# EAGLE library part RFM69LITE (library SWP)
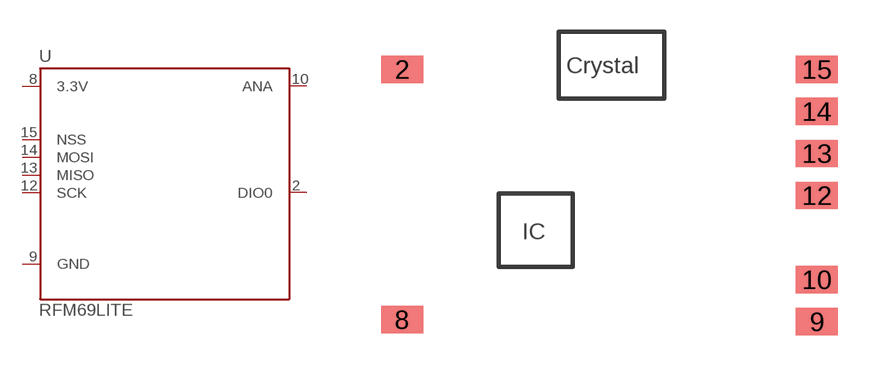
[diagram p3: symbol with the pads of RFM69SMDLITE; footprint RFM69SMDLITE]

Designator prefix -

## RFM69LITE  [RFM69SMDLITE]
2  DIO0
8  3.3V  pwr
9  GND  pwr
10  ANA
12  SCK  in
13  MISO  out
14  MOSI  in
15  NSS  in

## Footprint RFM69SMDLITE (pad centres in mm)
smd 2 x 1.3: 2 -10.1,4.6; 8 -10.1,-7.3; 9 9.6,-7.4; 10 9.6,-5.4; 12 9.6,-1.4; 13 9.6,0.6; 14 9.6,2.6; 15 9.6,4.6